# EAGLE library part 74F04 (library a3640_edu_v0.1)
74F04 HEX INVERTER
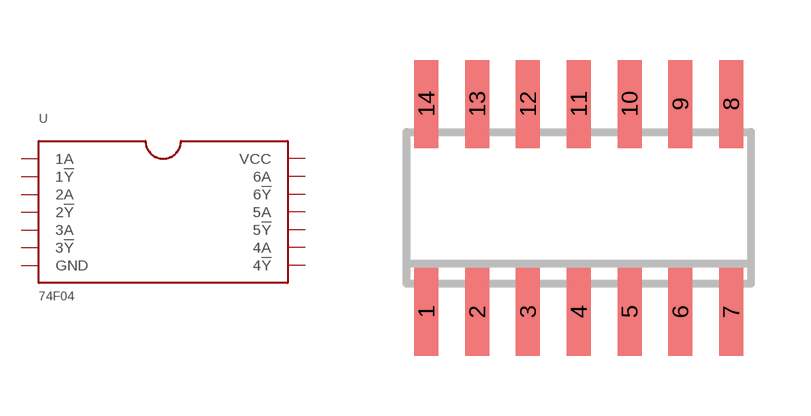
[diagram p11: symbol with the pads of 74F04; footprint 74F04]

Designator prefix -

## 74F04  [74F04]
1  1A
2  1!Y
3  2A
4  2!Y
5  3A  pwr
6  3!Y  pwr
7  GND
8  4!Y
9  4A
10  5!Y
11  5A
12  6!Y
13  6A
14  VCC  pwr

## Footprint 74F04 (pad centres in mm)
smd 0.6 x 2.2: 1 -4.445,-2.6; 2 -3.175,-2.6; 3 -1.905,-2.6; 4 -0.635,-2.6; 5 0.635,-2.6; 6 1.905,-2.6; 7 3.175,-2.6; 8 3.175,2.6; 9 1.905,2.6; 10 0.635,2.6; 11 -0.635,2.6; 12 -1.905,2.6; 13 -3.175,2.6; 14 -4.445,2.6